# EAGLE library part TPD13S523 (library AnthonyRobo1)
TVS DIODE 5.5VWM 15VC 16TSSOP
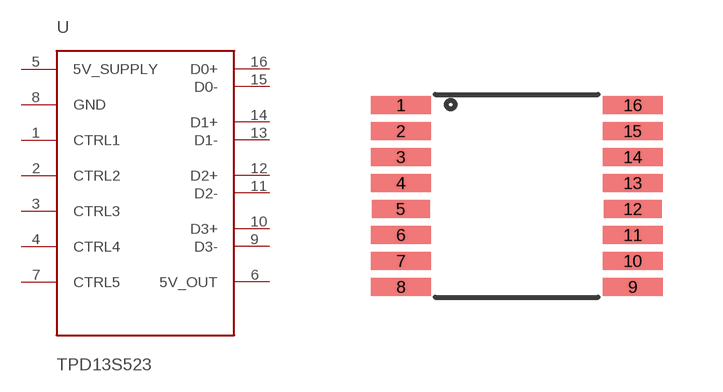
[diagram p0: symbol with the pads of TSSOP-16; footprint TSSOP-16]

Designator prefix U

## TPD13S523 (DKPN: 296-36784-1-ND)  [TSSOP-16]
1  CTRL1
2  CTRL2
3  CTRL3
4  CTRL4
5  5V_SUPPLY
6  5V_OUT
7  CTRL5
8  GND
9  D3-
10  D3+
11  D2-
12  D2+
13  D1-
14  D1+
15  D0-
16  D0+

## Footprint TSSOP-16 (pad centres in mm)
smd 1.5 x 0.45: 1 -2.9,2.275; 2 -2.9,1.625; 3 -2.9,0.975; 4 -2.9,0.325; 6 -2.9,-0.975; 7 -2.9,-1.625; 8 -2.9,-2.275; 9 2.9,-2.275; 10 2.9,-1.625; 11 2.9,-0.975; 13 2.9,0.325; 14 2.9,0.975; 15 2.9,1.625; 16 2.9,2.275
smd 1.45 x 0.45: 5 -2.9,-0.325; 12 2.9,-0.325